# Altium schematic symbol library CONN HEADERS 2.54MM PITCH FRICTION LOCK.schlib: 18 symbols
Pins are listed as number, name and electrical type; pins without a type are passive.

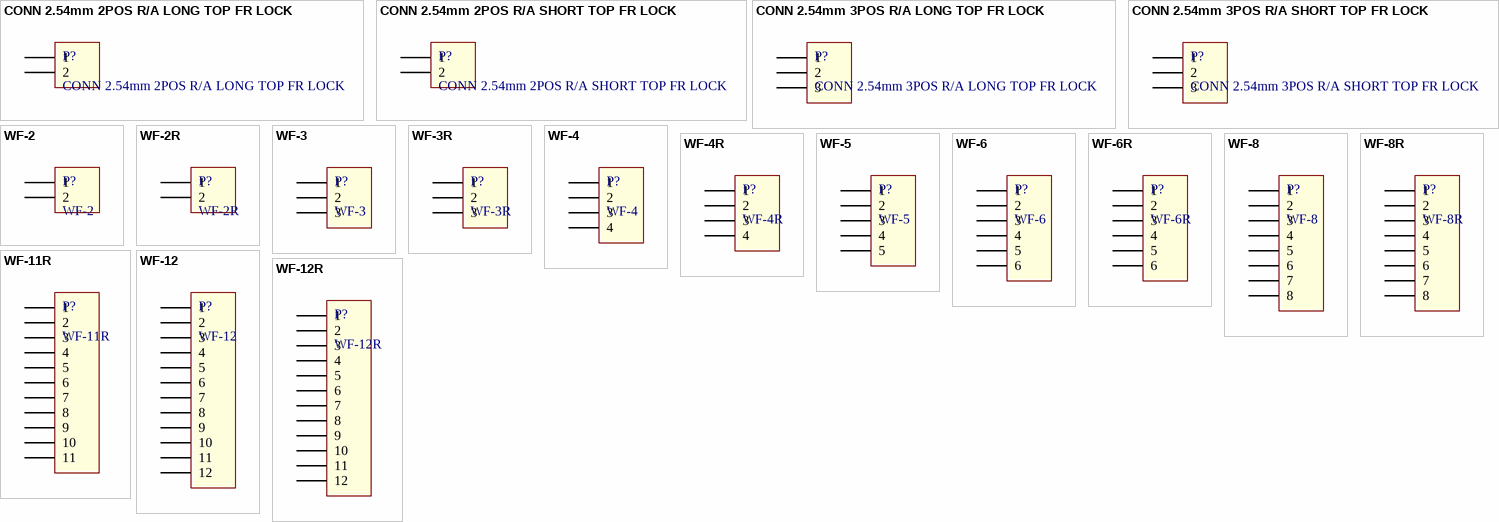
[diagram p0: symbols CONN 2.54mm 2POS R/A LONG TOP FR LOCK to WF-12R]

## CONN 2.54mm 2POS R/A LONG TOP FR LOCK
designator P?
CONN 2.54mm 2POS, RIGHT ANGLE, LONG TOP FRICTION LOCK
footprint CONN 2.54mm 2POS R/A LONG TOP FR LOCK (CONN 2.54mm 2POS RIGHT ANGLE, LONG TOP FRICTION LOCK)
pins: 1, 2

## CONN 2.54mm 2POS R/A SHORT TOP FR LOCK
designator P?
CONN 2.54mm 2POS, RIGHT ANGLE, SHORT TOP FRICTION LOCK; Supplier 1: Digi-Key; Supplier 2: Digi-Key; Supplier 3: Digi-Key; Supplier 4: Digi-Key; Supplier 5: Digi-Key; Supplier 6: Digi-Key; Supplier Part Number 1: A1926-ND; Supplier Part Number 2: WM4300-ND; Supplier Part Number 3: WM2711-ND; Supplier Part Number 4: A30794-ND; Supplier Part Number 5: A114212-ND; Supplier Part Number 6: A121334-ND
footprint CONN 2.54mm 2POS R/A SHORT TOP FR LOCK (CONN 2.54mm 2POS RIGHT ANGLE, SHORT TOP FRICTION LOCK)
pins: 1, 2

## CONN 2.54mm 3POS R/A LONG TOP FR LOCK
designator P?
CONN 2.54mm 3POS, RIGHT ANGLE, LONG TOP FRICTION LOCK
footprint CONN 2.54mm 3POS R/A LONG TOP FR LOCK (CONN 2.54mm 3POS RIGHT ANGLE, LONG BOTTOM FRICTION LOCK)
pins: 1, 2, 3

## CONN 2.54mm 3POS R/A SHORT TOP FR LOCK
designator P?
CONN 2.54mm 3POS, RIGHT ANGLE, SHORT TOP FRICTION LOCK
footprint CONN 2.54mm 3POS R/A SHORT TOP FR LOCK (CONN 2.54mm 3POS RIGHT ANGLE, SHORT BOTTOM FRICTION LOCK)
pins: 1, 2, 3

## WF-2
designator P?
CONN 2.54mm 2POS, VERTICAL, LONG FRICTION LOCK; Supplier 1: Digi-Key; Supplier 2: Digi-Key; Supplier 3: Digi-Key; Supplier Part Number 1: S9407-ND; Supplier Part Number 2: WM4111-ND; Supplier Part Number 3: WM2744-ND
footprint CONN 2.54mm 2POS VERT FR LOCK (CONN 2.54mm 2POS, VERTICAL, FRICTION LOCK)
pins: 1, 2

## WF-2R
designator P?
CONN 2.54mm 2POS, RIGHT ANGLE, LONG BOTTOM FRICTION LOCK
footprint CONN 2.54mm 2POS R/A LONG BOT FR LOCK (CONN 2.54mm 2POS RIGHT ANGLE, LONG BOTTOM FRICTION LOCK)
pins: 1, 2

## WF-3
designator P?
CONN 2.54mm 3POS, VERTICAL, FRICTION LOCK
footprint CONN 2.54mm 3POS VERT FR LOCK (CONN 2.54mm 3POS, VERTICAL, FRICTION LOCK)
pins: 1, 2, 3

## WF-3R
designator P?
CONN 2.54mm 3POS, RIGHT ANGLE, LONG BOTTOM FRICTION LOCK
footprint CONN 2.54mm 3POS R/A LONG BOT FR LOCK (CONN 2.54mm 3POS RIGHT ANGLE, LONG BOTTOM FRICTION LOCK)
pins: 1, 2, 3

## WF-4
designator P?
CONN 2.54mm 4POS, VERTICAL, LONG FRICTION LOCK
footprint CONN 2.54mm 4POS VERT FR LOCK (CONN 2.54mm 4POS, VERTICAL, FRICTION LOCK)
pins: 1, 2, 3, 4

## WF-4R
designator P?
CONN 2.54mm 4POS, RIGHT ANGLE, LONG FRICTION LOCK
footprint CONN 2.54mm 4POS R/A LONG BOT FR LOCK (CONN 2.54mm 4POS RIGHT ANGLE, LONG BOTTOM FRICTION LOCK)
pins: 1, 2, 3, 4

## WF-5
designator P?
CONN 2.54mm 5POS, VERTICAL, LONG FRICTION LOCK
footprint CONN 2.54mm 5POS VERT FR LOCK (CONN 2.54mm 5POS, VERTICAL, FRICTION LOCK)
pins: 1, 2, 3, 4, 5

## WF-6
designator P?
CONN 2.54mm 6POS, VERTICAL, LONG FRICTION LOCK
footprint WF-6 (WF-6 6POS VERTICAL, LONG FRICTION LOCK)
pins: 1, 2, 3, 4, 5, 6

## WF-6R
designator P?
WF-6R 6POS, Right Anble, LONG FRICTION LOCK
footprint WF-6R (WF-6R 6POS RIGHT ANGLE, LONG BOTTOM FRICTION LOCK)
pins: 1, 2, 3, 4, 5, 6

## WF-8
designator P?
WF-8 8POS, Vertical, LONG FRICTION LOCK
footprint WF-8 (WF-8 8POS VERTICAL, LONG FRICTION LOCK)
pins: 1, 2, 3, 4, 5, 6, 7, 8

## WF-8R
designator P?
WF-8R 8POS, Right Anble, LONG FRICTION LOCK
footprint WF-8R (WF-8R 8POS RIGHT ANGLE, LONG BOTTOM FRICTION LOCK)
pins: 1, 2, 3, 4, 5, 6, 7, 8

## WF-11R
designator P?
WF-11R 11POS, Right Anble, LONG FRICTION LOCK
footprint WF-11R (WF-11R 11POS RIGHT ANGLE, LONG BOTTOM FRICTION LOCK)
pins: 1, 2, 3, 4, 5, 6, 7, 8, 9, 10, 11

## WF-12
designator P?
WF-12 12POS, Vertical, LONG FRICTION LOCK
footprint WF-12 (WF-12 12POS VERTICAL, LONG FRICTION LOCK)
pins: 1, 2, 3, 4, 5, 6, 7, 8, 9, 10, 11, 12

## WF-12R
designator P?
WF-12R 12POS, Right Anble, LONG FRICTION LOCK
footprint WF-12R (WF-12R 12POS RIGHT ANGLE, LONG BOTTOM FRICTION LOCK)
pins: 1, 2, 3, 4, 5, 6, 7, 8, 9, 10, 11, 12